# Altium schematic symbol library SCH - POWER - LINEAR VREG - TI TPS7B4253-Q1PWP.SchLib: 1 symbol
Pins are listed as number, name and electrical type; pins without a type are passive.

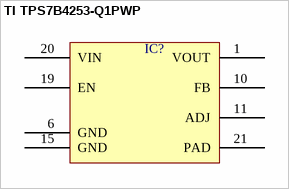
[diagram p0: symbol TI TPS7B4253-Q1PWP]

## TI TPS7B4253-Q1PWP
designator IC?  (value not drawn)
pins: 1 VOUT, 6 GND, 10 FB, 11 ADJ, 15 GND, 19 EN, 20 VIN, 21 PAD